# EAGLE library part S34TS04A (library TheMaker_v5)
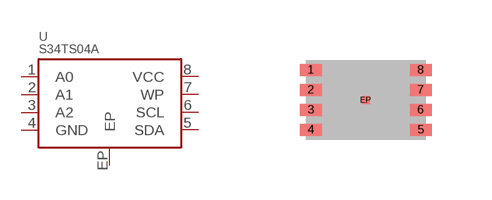
[diagram p7: symbol with the pads of DFN8; footprint DFN8]

Designator prefix -

## S34TS04A  [DFN8]
1  A0
2  A1
3  A2
4  GND
5  SDA
6  SCL
7  WP
8  VCC
EP  EP

## Footprint DFN8 (pad centres in mm)
smd 0.55 x 0.3: 1 -1.375,0.75; 2 -1.375,0.25; 3 -1.375,-0.25; 4 -1.375,-0.75; 5 1.375,-0.75; 6 1.375,-0.25; 7 1.375,0.25; 8 1.375,0.75
smd 0.2 x 0.2: EP 0,0